# Altium footprint library MSOP10.PcbLib: 1 footprints
Each footprint in its own frame and in the unit in brackets; x right, y up, seen from the top. Pads: shape width x height; smd on the part's side, far side on the other; paste and mask are expansions set on the pad; w line width, h text height; cw(c..) or ccw(c..) is an arc to the next point about the centre after c.
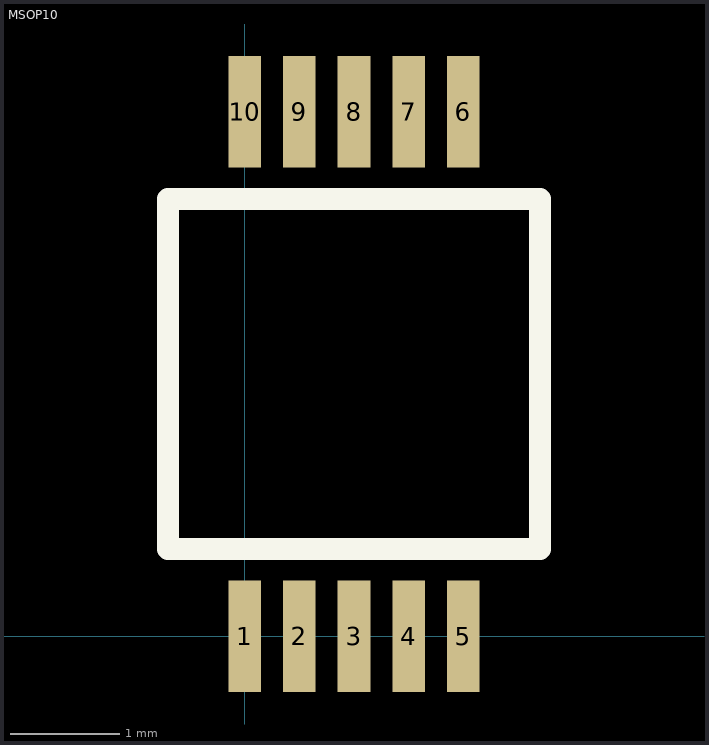
[diagram p0: the footprint, top view; thin cyan lines are the x and y axes]

## MSOP10 [mm]
pads (10):
  rect 0.3x1.02 smd: 1(0,0) 2(0.5,0) 3(1,0) 4(1.5,0) 5(2,0) 6(2,4.8) 7(1.5,4.8) 8(1,4.8) 9(0.5,4.8) 10(0,4.8)
Top Overlay:
  lines w0.2: -0.7,0.8 2.7,0.8 2.7,4 -0.7,4 -0.7,0.8